# Altium schematic symbol library WE-MTCI.SchLib: 9 symbols
Pins are listed as number, name and electrical type; pins without a type are passive.

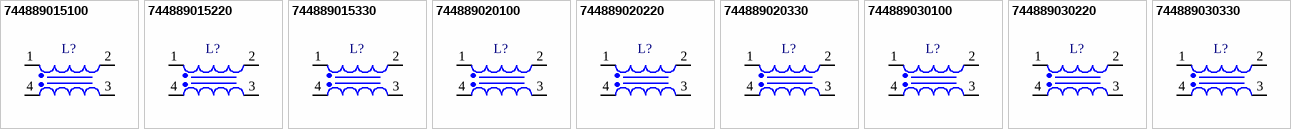
[diagram p0: symbols 744889015100 to 744889030330]

## 744889015100
designator L?, comment 10uH / 22.5uH  (value not drawn)
WE-MTCI Multi-Turn Ratio coupled Inductor, SMT, size 5030, 10uH / 22.5uH, 0.95A; Manufacturer Part Number: 744889015100; Manufacturer: Wurth Elektronik; Case/Size Code: 5030; DC Resistance 1: 349mohm; DC Resistance 2: 408mohm; DC Resistance Max 1: 500mohm; DC Resistance Max 2: 600mohm; Saturation Current: 1.5A; Self Resonant Frequency: 13MHz; Turns Ratio: 1:1.5; Product Series: WE-MTCI; ComponentLink1Description: Website Link; ComponentLink1URL: https://www.we-online.com; ComponentLink2Description: Datasheet Link; ComponentLink2URL: https://www.we-online.com/components/products/datasheet/744889015100; Mount: Surface Mount; Operating Temperature Min: -40degC; Operating Temperature Max: 125degC; Packaging: Tape and Reel; Length: 5.2mm; Width: 5.2mm; Height: 3.1mm; Inductance 1: 10uH; Inductance 2: 22.5uH; Rated Current: 0.95A
footprint WE-MTCI_5030
simulation model 5030_744889015100_10u
pins: 1, 2, 3, 4

## 744889015220
designator L?, comment 22uH / 49.5uH  (value not drawn)
WE-MTCI Multi-Turn Ratio coupled Inductor, SMT, size 5030, 22uH / 49.5uH, 0.6A; Manufacturer Part Number: 744889015220; Manufacturer: Wurth Elektronik; Case/Size Code: 5030; DC Resistance 1: 662mohm; DC Resistance 2: 874mohm; DC Resistance Max 1: 1000mohm; DC Resistance Max 2: 1200mohm; Saturation Current: 1A; Self Resonant Frequency: 9.5MHz; Turns Ratio: 1:1.5; Product Series: WE-MTCI; ComponentLink1Description: Website Link; ComponentLink1URL: https://www.we-online.com; ComponentLink2Description: Datasheet Link; ComponentLink2URL: https://www.we-online.com/components/products/datasheet/744889015220; Mount: Surface Mount; Operating Temperature Min: -40degC; Operating Temperature Max: 125degC; Packaging: Tape and Reel; Length: 5.2mm; Width: 5.2mm; Height: 3.1mm; Inductance 1: 22uH; Inductance 2: 49.5uH; Rated Current: 0.6A
footprint WE-MTCI_5030
simulation model 5030_744889015220_22u
pins: 1, 2, 3, 4

## 744889015330
designator L?, comment 33uH / 74.25uH  (value not drawn)
WE-MTCI Multi-Turn Ratio coupled Inductor, SMT, size 5030, 33uH / 74.25uH, 0.45A; Manufacturer Part Number: 744889015330; Manufacturer: Wurth Elektronik; Case/Size Code: 5030; DC Resistance 1: 1338mohm; DC Resistance 2: 1782mohm; DC Resistance Max 1: 1900mohm; DC Resistance Max 2: 2400mohm; Saturation Current: 0.75A; Self Resonant Frequency: 7MHz; Turns Ratio: 1:1.5; Product Series: WE-MTCI; ComponentLink1Description: Website Link; ComponentLink1URL: https://www.we-online.com; ComponentLink2Description: Datasheet Link; ComponentLink2URL: https://www.we-online.com/components/products/datasheet/744889015330; Mount: Surface Mount; Operating Temperature Min: -40degC; Operating Temperature Max: 125degC; Packaging: Tape and Reel; Length: 5.2mm; Width: 5.2mm; Height: 3.1mm; Inductance 1: 33uH; Inductance 2: 74.25uH; Rated Current: 0.45A
footprint WE-MTCI_5030
simulation model 5030_744889015330_33u
pins: 1, 2, 3, 4

## 744889020100
designator L?, comment 10uH / 40uH  (value not drawn)
WE-MTCI Multi-Turn Ratio coupled Inductor, SMT, size 5030, 10uH / 40uH, 0.95A; Manufacturer Part Number: 744889020100; Manufacturer: Wurth Elektronik; Case/Size Code: 5030; DC Resistance 1: 358mohm; DC Resistance 2: 552mohm; DC Resistance Max 1: 500mohm; DC Resistance Max 2: 750mohm; Saturation Current: 1.5A; Self Resonant Frequency: 11.5MHz; Turns Ratio: 1:2; Product Series: WE-MTCI; ComponentLink1Description: Website Link; ComponentLink1URL: https://www.we-online.com; ComponentLink2Description: Datasheet Link; ComponentLink2URL: https://www.we-online.com/components/products/datasheet/744889020100; Mount: Surface Mount; Operating Temperature Min: -40degC; Operating Temperature Max: 125degC; Packaging: Tape and Reel; Length: 5.2mm; Width: 5.2mm; Height: 3.1mm; Inductance 1: 10uH; Inductance 2: 40uH; Rated Current: 0.95A
footprint WE-MTCI_5030
simulation model 5030_744889020100_10u
pins: 1, 2, 3, 4

## 744889020220
designator L?, comment 22uH / 88uH  (value not drawn)
WE-MTCI Multi-Turn Ratio coupled Inductor, SMT, size 5030, 22uH / 88uH, 0.6A; Manufacturer Part Number: 744889020220; Manufacturer: Wurth Elektronik; Case/Size Code: 5030; DC Resistance 1: 712mohm; DC Resistance 2: 1208mohm; DC Resistance Max 1: 1000mohm; DC Resistance Max 2: 1600mohm; Saturation Current: 1A; Self Resonant Frequency: 7MHz; Turns Ratio: 1:2; Product Series: WE-MTCI; ComponentLink1Description: Website Link; ComponentLink1URL: https://www.we-online.com; ComponentLink2Description: Datasheet Link; ComponentLink2URL: https://www.we-online.com/components/products/datasheet/744889020220; Mount: Surface Mount; Operating Temperature Min: -40degC; Operating Temperature Max: 125degC; Packaging: Tape and Reel; Length: 5.2mm; Width: 5.2mm; Height: 3.1mm; Inductance 1: 22uH; Inductance 2: 88uH; Rated Current: 0.6A
footprint WE-MTCI_5030
simulation model 5030_744889020220_22u
pins: 1, 2, 3, 4

## 744889020330
designator L?, comment 33uH / 132uH  (value not drawn)
WE-MTCI Multi-Turn Ratio coupled Inductor, SMT, size 5030, 33uH / 132uH, 0.45A; Manufacturer Part Number: 744889020330; Manufacturer: Wurth Elektronik; Case/Size Code: 5030; DC Resistance 1: 1383mohm; DC Resistance 2: 2418mohm; DC Resistance Max 1: 1900mohm; DC Resistance Max 2: 3200mohm; Saturation Current: 0.75A; Self Resonant Frequency: 5.8MHz; Turns Ratio: 1:2; Product Series: WE-MTCI; ComponentLink1Description: Website Link; ComponentLink1URL: https://www.we-online.com; ComponentLink2Description: Datasheet Link; ComponentLink2URL: https://www.we-online.com/components/products/datasheet/744889020330; Mount: Surface Mount; Operating Temperature Min: -40degC; Operating Temperature Max: 125degC; Packaging: Tape and Reel; Length: 5.2mm; Width: 5.2mm; Height: 3.1mm; Inductance 1: 33uH; Inductance 2: 132uH; Rated Current: 0.45A
footprint WE-MTCI_5030
simulation model 5030_744889020330_33u
pins: 1, 2, 3, 4

## 744889030100
designator L?, comment 10uH / 90uH  (value not drawn)
WE-MTCI Multi-Turn Ratio coupled Inductor, SMT, size 5030, 10uH / 90uH, 0.95A; Manufacturer Part Number: 744889030100; Manufacturer: Wurth Elektronik; Case/Size Code: 5030; DC Resistance 1: 363mohm; DC Resistance 2: 846mohm; DC Resistance Max 1: 500mohm; DC Resistance Max 2: 1100mohm; Saturation Current: 1.5A; Self Resonant Frequency: 8MHz; Turns Ratio: 1:3; Product Series: WE-MTCI; ComponentLink1Description: Website Link; ComponentLink1URL: https://www.we-online.com; ComponentLink2Description: Datasheet Link; ComponentLink2URL: https://www.we-online.com/components/products/datasheet/744889030100; Mount: Surface Mount; Operating Temperature Min: -40degC; Operating Temperature Max: 125degC; Packaging: Tape and Reel; Length: 5.2mm; Width: 5.2mm; Height: 3.1mm; Inductance 1: 10uH; Inductance 2: 90uH; Rated Current: 0.95A
footprint WE-MTCI_5030
simulation model 5030_744889030100_10u
pins: 1, 2, 3, 4

## 744889030220
designator L?, comment 22uH / 198uH  (value not drawn)
WE-MTCI Multi-Turn Ratio coupled Inductor, SMT, size 5030, 22uH / 198uH, 0.6A; Manufacturer Part Number: 744889030220; Manufacturer: Wurth Elektronik; Case/Size Code: 5030; DC Resistance 1: 732mohm; DC Resistance 2: 1872mohm; DC Resistance Max 1: 1000mohm; DC Resistance Max 2: 2500mohm; Saturation Current: 1A; Self Resonant Frequency: 5MHz; Turns Ratio: 1:3; Product Series: WE-MTCI; ComponentLink1Description: Website Link; ComponentLink1URL: https://www.we-online.com; ComponentLink2Description: Datasheet Link; ComponentLink2URL: https://www.we-online.com/components/products/datasheet/744889030220; Mount: Surface Mount; Operating Temperature Min: -40degC; Operating Temperature Max: 125degC; Packaging: Tape and Reel; Length: 5.2mm; Width: 5.2mm; Height: 3.1mm; Inductance 1: 22uH; Inductance 2: 198uH; Rated Current: 0.6A
footprint WE-MTCI_5030
simulation model 5030_744889030220_22u
pins: 1, 2, 3, 4

## 744889030330
designator L?, comment 33uH / 297uH  (value not drawn)
WE-MTCI Multi-Turn Ratio coupled Inductor, SMT, size 5030, 33uH / 297uH, 0.45A; Manufacturer Part Number: 744889030330; Manufacturer: Wurth Elektronik; Case/Size Code: 5030; DC Resistance 1: 1466mohm; DC Resistance 2: 3758mohm; DC Resistance Max 1: 1900mohm; DC Resistance Max 2: 5200mohm; Saturation Current: 0.75A; Self Resonant Frequency: 4MHz; Turns Ratio: 1:3; Product Series: WE-MTCI; ComponentLink1Description: Website Link; ComponentLink1URL: https://www.we-online.com; ComponentLink2Description: Datasheet Link; ComponentLink2URL: https://www.we-online.com/components/products/datasheet/744889030330; Mount: Surface Mount; Operating Temperature Min: -40degC; Operating Temperature Max: 125degC; Packaging: Tape and Reel; Length: 5.2mm; Width: 5.2mm; Height: 3.1mm; Inductance 1: 33uH; Inductance 2: 297uH; Rated Current: 0.45A
footprint WE-MTCI_5030
simulation model 5030_744889030330_33u
pins: 1, 2, 3, 4